# EAGLE library part ST1S14 (library afc-smm)
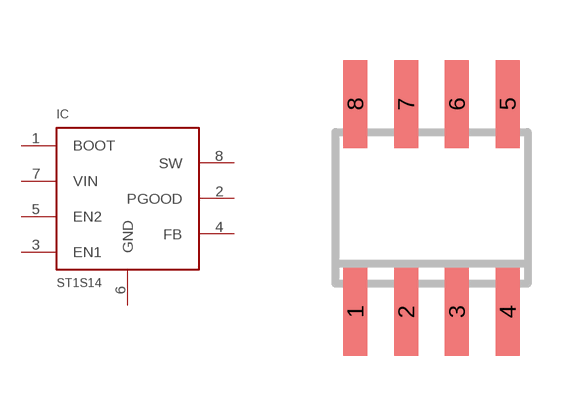
[diagram p4: symbol with the pads of SO8; footprint SO8]

Designator prefix IC

## ST1S14  [SO8]
1  BOOT
2  PGOOD
3  EN1
4  FB
5  EN2
6  GND
7  VIN
8  SW

## Footprint SO8 (pad centres in mm)
SMALL OUTLINE INTEGRATED CIRCUIT
smd 0.6 x 2.2: 1 -1.905,-2.6; 2 -0.635,-2.6; 3 0.635,-2.6; 4 1.905,-2.6; 5 1.905,2.6; 6 0.635,2.6; 7 -0.635,2.6; 8 -1.905,2.6